# Altium footprint library Connector_FFC-FPC.PcbLib: 372 footprints (part 22 of 24)
Each footprint in its own frame and in the unit in brackets; x right, y up, seen from the top. Pads: shape width x height; smd on the part's side, far side on the other; paste and mask are expansions set on the pad; w line width, h text height; cw(c..) or ccw(c..) is an arc to the next point about the centre after c.
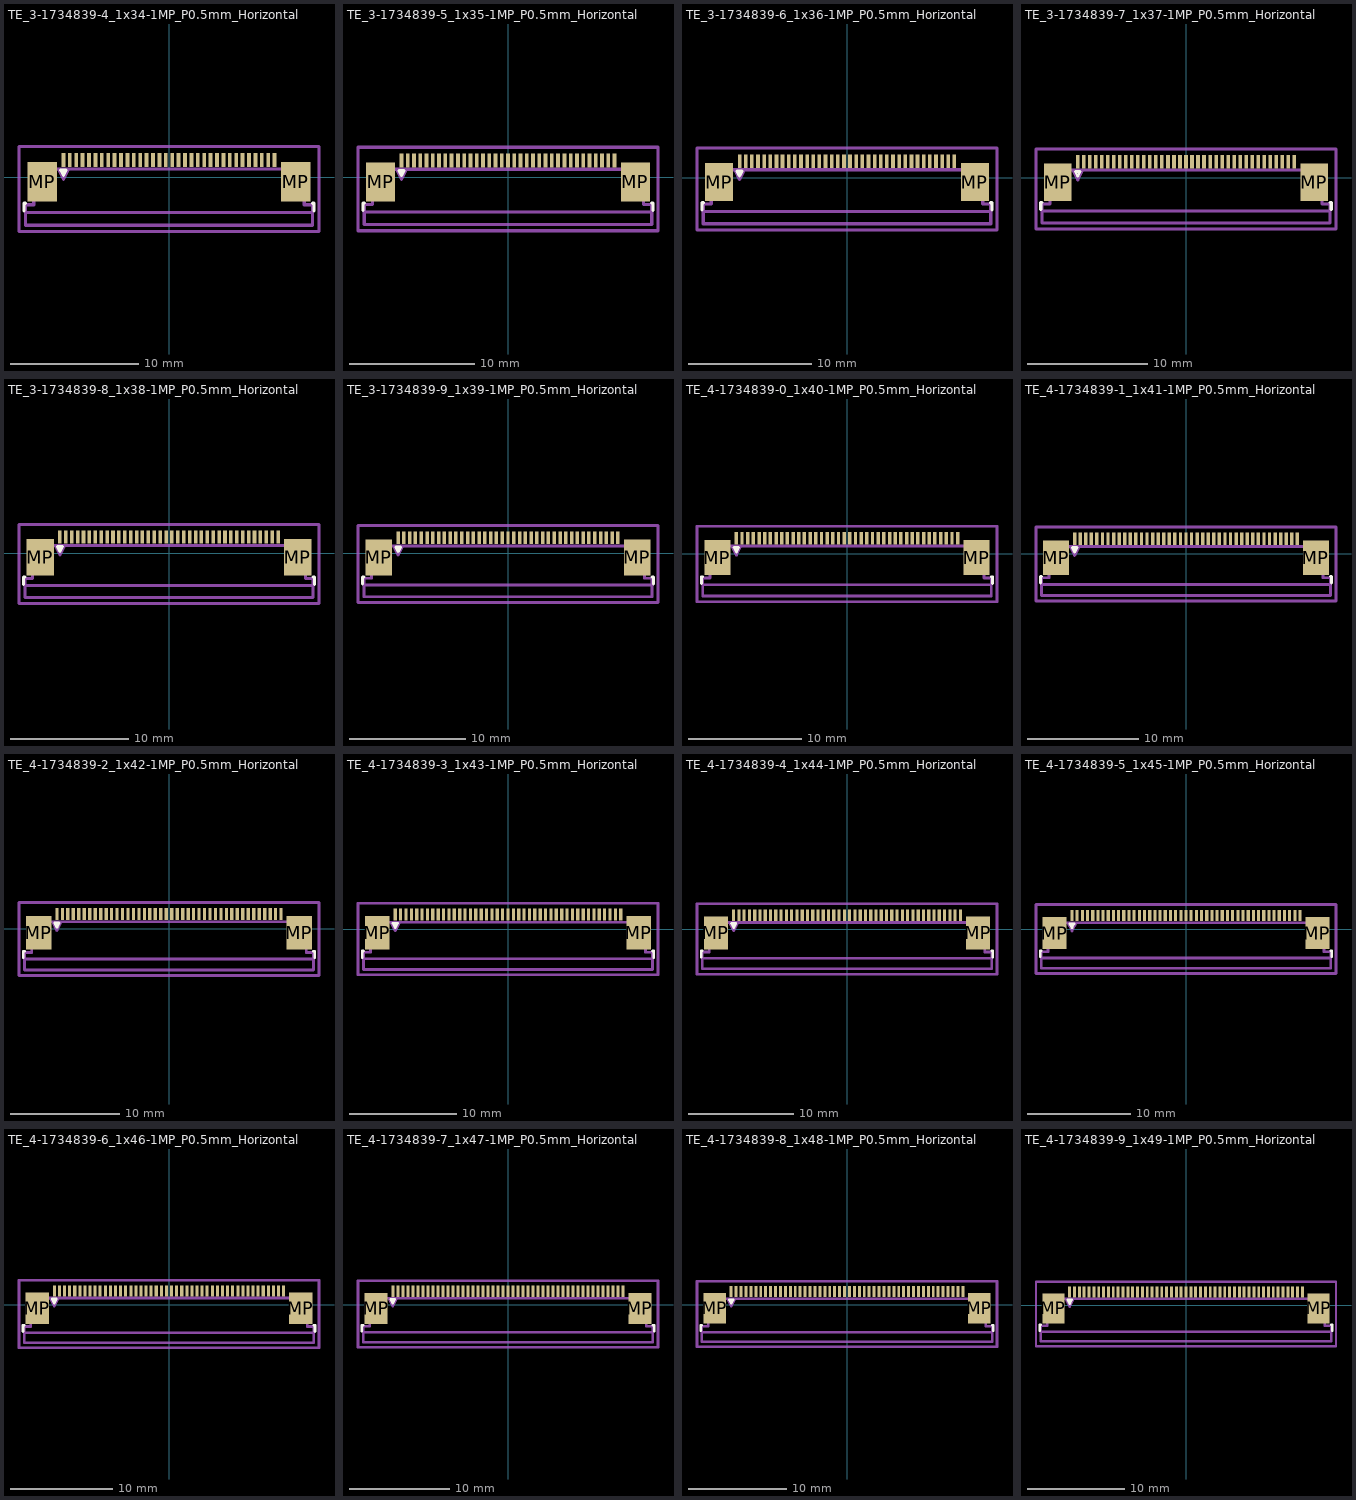
[diagram p21: the footprints below, top view; thin cyan lines are the x and y axes]

## TE_3-1734839-4_1x34-1MP_P0.5mm_Horizontal [mm]
pads (36):
  rect 0.3x1.1 smd: 1(-8.25,1.35) 2(-7.75,1.35) 3(-7.25,1.35) 4(-6.75,1.35) 5(-6.25,1.35) 6(-5.75,1.35) 7(-5.25,1.35) 8(-4.75,1.35) 9(-4.25,1.35) 10(-3.75,1.35) 11(-3.25,1.35) 12(-2.75,1.35) 13(-2.25,1.35) 14(-1.75,1.35) 15(-1.25,1.35) 16(-0.75,1.35) 17(-0.25,1.35) 18(0.25,1.35) 19(0.75,1.35) 20(1.25,1.35) 21(1.75,1.35) 22(2.25,1.35) 23(2.75,1.35) 24(3.25,1.35) 25(3.75,1.35) 26(4.25,1.35) 27(4.75,1.35) 28(5.25,1.35) 29(5.75,1.35) 30(6.25,1.35) 31(6.75,1.35) 32(7.25,1.35) 33(7.75,1.35) 34(8.25,1.35)
  rect 2.3x3.1 smd: MP(-9.92,-0.35) MP(9.92,-0.35)
F.SilkS:
  lines w0.254: -11.325,-2.64 -11.325,-2.04 -11.215,-2.04 ; 11.215,-2.04 11.325,-2.04 11.325,-2.64 ; -8.45,0.55 -8.05,0.55 -8.25,0.15 -8.45,0.55
Top Assembly:
  lines w0.254: -8.65,0.65 -8.25,-0.15 -7.85,0.65 ; -11.215,-3.75 11.215,-3.75 11.215,-2.15 10.56,-2.15 10.56,0.65 -10.56,0.65 -10.56,-2.15 -11.215,-2.15 -11.215,-3.75
  text "'.Designator'" at -4.047,-2.39 h1
Top Courtyard:
  lines w0.254: -11.72,-4.25 11.72,-4.25 11.72,2.41 -11.72,2.41 -11.72,-4.25
Top Designator:
  text ".Designator" at -7.618,-1.428 h1.52
Dwgs.User:
  lines w0.254: -11.105,-2.75 11.105,-2.75
  text "PCB Edge" at -1.728,-3.663 h0.5

## TE_3-1734839-5_1x35-1MP_P0.5mm_Horizontal [mm]
pads (37):
  rect 0.3x1.1 smd: 1(-8.5,1.35) 2(-8,1.35) 3(-7.5,1.35) 4(-7,1.35) 5(-6.5,1.35) 6(-6,1.35) 7(-5.5,1.35) 8(-5,1.35) 9(-4.5,1.35) 10(-4,1.35) 11(-3.5,1.35) 12(-3,1.35) 13(-2.5,1.35) 14(-2,1.35) 15(-1.5,1.35) 16(-1,1.35) 17(-0.5,1.35) 18(0,1.35) 19(0.5,1.35) 20(1,1.35) 21(1.5,1.35) 22(2,1.35) 23(2.5,1.35) 24(3,1.35) 25(3.5,1.35) 26(4,1.35) 27(4.5,1.35) 28(5,1.35) 29(5.5,1.35) 30(6,1.35) 31(6.5,1.35) 32(7,1.35) 33(7.5,1.35) 34(8,1.35) 35(8.5,1.35)
  rect 2.3x3.1 smd: MP(-10.17,-0.35) MP(10.17,-0.35)
F.SilkS:
  lines w0.254: -11.575,-2.64 -11.575,-2.04 -11.465,-2.04 ; 11.465,-2.04 11.575,-2.04 11.575,-2.64 ; -8.7,0.55 -8.3,0.55 -8.5,0.15 -8.7,0.55
Top Assembly:
  lines w0.254: -8.9,0.65 -8.5,-0.15 -8.1,0.65 ; -11.465,-3.75 11.465,-3.75 11.465,-2.15 10.81,-2.15 10.81,0.65 -10.81,0.65 -10.81,-2.15 -11.465,-2.15 -11.465,-3.75
  text "'.Designator'" at -4.047,-2.39 h1
Top Courtyard:
  lines w0.254: -11.97,-4.25 11.97,-4.25 11.97,2.41 -11.97,2.41 -11.97,-4.25
Top Designator:
  text ".Designator" at -7.618,-1.428 h1.52
Dwgs.User:
  lines w0.254: -11.355,-2.75 11.355,-2.75
  text "PCB Edge" at -1.728,-3.663 h0.5

## TE_3-1734839-6_1x36-1MP_P0.5mm_Horizontal [mm]
pads (38):
  rect 0.3x1.1 smd: 1(-8.75,1.35) 2(-8.25,1.35) 3(-7.75,1.35) 4(-7.25,1.35) 5(-6.75,1.35) 6(-6.25,1.35) 7(-5.75,1.35) 8(-5.25,1.35) 9(-4.75,1.35) 10(-4.25,1.35) 11(-3.75,1.35) 12(-3.25,1.35) 13(-2.75,1.35) 14(-2.25,1.35) 15(-1.75,1.35) 16(-1.25,1.35) 17(-0.75,1.35) 18(-0.25,1.35) 19(0.25,1.35) 20(0.75,1.35) 21(1.25,1.35) 22(1.75,1.35) 23(2.25,1.35) 24(2.75,1.35) 25(3.25,1.35) 26(3.75,1.35) 27(4.25,1.35) 28(4.75,1.35) 29(5.25,1.35) 30(5.75,1.35) 31(6.25,1.35) 32(6.75,1.35) 33(7.25,1.35) 34(7.75,1.35) 35(8.25,1.35) 36(8.75,1.35)
  rect 2.3x3.1 smd: MP(-10.42,-0.35) MP(10.42,-0.35)
F.SilkS:
  lines w0.254: -11.825,-2.64 -11.825,-2.04 -11.715,-2.04 ; 11.715,-2.04 11.825,-2.04 11.825,-2.64 ; -8.95,0.55 -8.55,0.55 -8.75,0.15 -8.95,0.55
Top Assembly:
  lines w0.254: -9.15,0.65 -8.75,-0.15 -8.35,0.65 ; -11.715,-3.75 11.715,-3.75 11.715,-2.15 11.06,-2.15 11.06,0.65 -11.06,0.65 -11.06,-2.15 -11.715,-2.15 -11.715,-3.75
  text "'.Designator'" at -4.047,-2.39 h1
Top Courtyard:
  lines w0.254: -12.22,-4.25 12.22,-4.25 12.22,2.41 -12.22,2.41 -12.22,-4.25
Top Designator:
  text ".Designator" at -7.618,-1.428 h1.52
Dwgs.User:
  lines w0.254: -11.605,-2.75 11.605,-2.75
  text "PCB Edge" at -1.728,-3.663 h0.5

## TE_3-1734839-7_1x37-1MP_P0.5mm_Horizontal [mm]
pads (39):
  rect 0.3x1.1 smd: 1(-9,1.35) 2(-8.5,1.35) 3(-8,1.35) 4(-7.5,1.35) 5(-7,1.35) 6(-6.5,1.35) 7(-6,1.35) 8(-5.5,1.35) 9(-5,1.35) 10(-4.5,1.35) 11(-4,1.35) 12(-3.5,1.35) 13(-3,1.35) 14(-2.5,1.35) 15(-2,1.35) 16(-1.5,1.35) 17(-1,1.35) 18(-0.5,1.35) 19(0,1.35) 20(0.5,1.35) 21(1,1.35) 22(1.5,1.35) 23(2,1.35) 24(2.5,1.35) 25(3,1.35) 26(3.5,1.35) 27(4,1.35) 28(4.5,1.35) 29(5,1.35) 30(5.5,1.35) 31(6,1.35) 32(6.5,1.35) 33(7,1.35) 34(7.5,1.35) 35(8,1.35) 36(8.5,1.35) 37(9,1.35)
  rect 2.3x3.1 smd: MP(-10.67,-0.35) MP(10.67,-0.35)
F.SilkS:
  lines w0.254: -12.075,-2.64 -12.075,-2.04 -11.965,-2.04 ; 11.965,-2.04 12.075,-2.04 12.075,-2.64 ; -9.2,0.55 -8.8,0.55 -9,0.15 -9.2,0.55
Top Assembly:
  lines w0.254: -9.4,0.65 -9,-0.15 -8.6,0.65 ; -11.965,-3.75 11.965,-3.75 11.965,-2.15 11.31,-2.15 11.31,0.65 -11.31,0.65 -11.31,-2.15 -11.965,-2.15 -11.965,-3.75
  text "'.Designator'" at -4.047,-2.39 h1
Top Courtyard:
  lines w0.254: -12.47,-4.25 12.47,-4.25 12.47,2.41 -12.47,2.41 -12.47,-4.25
Top Designator:
  text ".Designator" at -7.618,-1.428 h1.52
Dwgs.User:
  lines w0.254: -11.855,-2.75 11.855,-2.75
  text "PCB Edge" at -1.728,-3.663 h0.5

## TE_3-1734839-8_1x38-1MP_P0.5mm_Horizontal [mm]
pads (40):
  rect 0.3x1.1 smd: 1(-9.25,1.35) 2(-8.75,1.35) 3(-8.25,1.35) 4(-7.75,1.35) 5(-7.25,1.35) 6(-6.75,1.35) 7(-6.25,1.35) 8(-5.75,1.35) 9(-5.25,1.35) 10(-4.75,1.35) 11(-4.25,1.35) 12(-3.75,1.35) 13(-3.25,1.35) 14(-2.75,1.35) 15(-2.25,1.35) 16(-1.75,1.35) 17(-1.25,1.35) 18(-0.75,1.35) 19(-0.25,1.35) 20(0.25,1.35) 21(0.75,1.35) 22(1.25,1.35) 23(1.75,1.35) 24(2.25,1.35) 25(2.75,1.35) 26(3.25,1.35) 27(3.75,1.35) 28(4.25,1.35) 29(4.75,1.35) 30(5.25,1.35) 31(5.75,1.35) 32(6.25,1.35) 33(6.75,1.35) 34(7.25,1.35) 35(7.75,1.35) 36(8.25,1.35) 37(8.75,1.35) 38(9.25,1.35)
  rect 2.3x3.1 smd: MP(-10.92,-0.35) MP(10.92,-0.35)
F.SilkS:
  lines w0.254: -12.325,-2.64 -12.325,-2.04 -12.215,-2.04 ; 12.215,-2.04 12.325,-2.04 12.325,-2.64 ; -9.45,0.55 -9.05,0.55 -9.25,0.15 -9.45,0.55
Top Assembly:
  lines w0.254: -9.65,0.65 -9.25,-0.15 -8.85,0.65 ; -12.215,-3.75 12.215,-3.75 12.215,-2.15 11.56,-2.15 11.56,0.65 -11.56,0.65 -11.56,-2.15 -12.215,-2.15 -12.215,-3.75
  text "'.Designator'" at -4.047,-2.39 h1
Top Courtyard:
  lines w0.254: -12.72,-4.25 12.72,-4.25 12.72,2.41 -12.72,2.41 -12.72,-4.25
Top Designator:
  text ".Designator" at -7.618,-1.428 h1.52
Dwgs.User:
  lines w0.254: -12.105,-2.75 12.105,-2.75
  text "PCB Edge" at -1.728,-3.663 h0.5

## TE_3-1734839-9_1x39-1MP_P0.5mm_Horizontal [mm]
pads (41):
  rect 0.3x1.1 smd: 1(-9.5,1.35) 2(-9,1.35) 3(-8.5,1.35) 4(-8,1.35) 5(-7.5,1.35) 6(-7,1.35) 7(-6.5,1.35) 8(-6,1.35) 9(-5.5,1.35) 10(-5,1.35) 11(-4.5,1.35) 12(-4,1.35) 13(-3.5,1.35) 14(-3,1.35) 15(-2.5,1.35) 16(-2,1.35) 17(-1.5,1.35) 18(-1,1.35) 19(-0.5,1.35) 20(0,1.35) 21(0.5,1.35) 22(1,1.35) 23(1.5,1.35) 24(2,1.35) 25(2.5,1.35) 26(3,1.35) 27(3.5,1.35) 28(4,1.35) 29(4.5,1.35) 30(5,1.35) 31(5.5,1.35) 32(6,1.35) 33(6.5,1.35) 34(7,1.35) 35(7.5,1.35) 36(8,1.35) 37(8.5,1.35) 38(9,1.35) 39(9.5,1.35)
  rect 2.3x3.1 smd: MP(-11.17,-0.35) MP(11.17,-0.35)
F.SilkS:
  lines w0.254: -12.575,-2.64 -12.575,-2.04 -12.465,-2.04 ; 12.465,-2.04 12.575,-2.04 12.575,-2.64 ; -9.7,0.55 -9.3,0.55 -9.5,0.15 -9.7,0.55
Top Assembly:
  lines w0.254: -9.9,0.65 -9.5,-0.15 -9.1,0.65 ; -12.465,-3.75 12.465,-3.75 12.465,-2.15 11.81,-2.15 11.81,0.65 -11.81,0.65 -11.81,-2.15 -12.465,-2.15 -12.465,-3.75
  text "'.Designator'" at -4.047,-2.39 h1
Top Courtyard:
  lines w0.254: -12.97,-4.25 12.97,-4.25 12.97,2.41 -12.97,2.41 -12.97,-4.25
Top Designator:
  text ".Designator" at -7.618,-1.428 h1.52
Dwgs.User:
  lines w0.254: -12.355,-2.75 12.355,-2.75
  text "PCB Edge" at -1.728,-3.663 h0.5

## TE_4-1734839-0_1x40-1MP_P0.5mm_Horizontal [mm]
pads (42):
  rect 0.3x1.1 smd: 1(-9.75,1.35) 2(-9.25,1.35) 3(-8.75,1.35) 4(-8.25,1.35) 5(-7.75,1.35) 6(-7.25,1.35) 7(-6.75,1.35) 8(-6.25,1.35) 9(-5.75,1.35) 10(-5.25,1.35) 11(-4.75,1.35) 12(-4.25,1.35) 13(-3.75,1.35) 14(-3.25,1.35) 15(-2.75,1.35) 16(-2.25,1.35) 17(-1.75,1.35) 18(-1.25,1.35) 19(-0.75,1.35) 20(-0.25,1.35) 21(0.25,1.35) 22(0.75,1.35) 23(1.25,1.35) 24(1.75,1.35) 25(2.25,1.35) 26(2.75,1.35) 27(3.25,1.35) 28(3.75,1.35) 29(4.25,1.35) 30(4.75,1.35) 31(5.25,1.35) 32(5.75,1.35) 33(6.25,1.35) 34(6.75,1.35) 35(7.25,1.35) 36(7.75,1.35) 37(8.25,1.35) 38(8.75,1.35) 39(9.25,1.35) 40(9.75,1.35)
  rect 2.3x3.1 smd: MP(-11.42,-0.35) MP(11.42,-0.35)
F.SilkS:
  lines w0.254: -12.825,-2.64 -12.825,-2.04 -12.715,-2.04 ; 12.715,-2.04 12.825,-2.04 12.825,-2.64 ; -9.95,0.55 -9.55,0.55 -9.75,0.15 -9.95,0.55
Top Assembly:
  lines w0.254: -10.15,0.65 -9.75,-0.15 -9.35,0.65 ; -12.715,-3.75 12.715,-3.75 12.715,-2.15 12.06,-2.15 12.06,0.65 -12.06,0.65 -12.06,-2.15 -12.715,-2.15 -12.715,-3.75
  text "'.Designator'" at -4.047,-2.39 h1
Top Courtyard:
  lines w0.254: -13.22,-4.25 13.22,-4.25 13.22,2.41 -13.22,2.41 -13.22,-4.25
Top Designator:
  text ".Designator" at -7.618,-1.428 h1.52
Dwgs.User:
  lines w0.254: -12.605,-2.75 12.605,-2.75
  text "PCB Edge" at -1.728,-3.663 h0.5

## TE_4-1734839-1_1x41-1MP_P0.5mm_Horizontal [mm]
pads (43):
  rect 0.3x1.1 smd: 1(-10,1.35) 2(-9.5,1.35) 3(-9,1.35) 4(-8.5,1.35) 5(-8,1.35) 6(-7.5,1.35) 7(-7,1.35) 8(-6.5,1.35) 9(-6,1.35) 10(-5.5,1.35) 11(-5,1.35) 12(-4.5,1.35) 13(-4,1.35) 14(-3.5,1.35) 15(-3,1.35) 16(-2.5,1.35) 17(-2,1.35) 18(-1.5,1.35) 19(-1,1.35) 20(-0.5,1.35) 21(0,1.35) 22(0.5,1.35) 23(1,1.35) 24(1.5,1.35) 25(2,1.35) 26(2.5,1.35) 27(3,1.35) 28(3.5,1.35) 29(4,1.35) 30(4.5,1.35) 31(5,1.35) 32(5.5,1.35) 33(6,1.35) 34(6.5,1.35) 35(7,1.35) 36(7.5,1.35) 37(8,1.35) 38(8.5,1.35) 39(9,1.35) 40(9.5,1.35) 41(10,1.35)
  rect 2.3x3.1 smd: MP(-11.67,-0.35) MP(11.67,-0.35)
F.SilkS:
  lines w0.254: -13.075,-2.64 -13.075,-2.04 -12.965,-2.04 ; 12.965,-2.04 13.075,-2.04 13.075,-2.64 ; -10.2,0.55 -9.8,0.55 -10,0.15 -10.2,0.55
Top Assembly:
  lines w0.254: -10.4,0.65 -10,-0.15 -9.6,0.65 ; -12.965,-3.75 12.965,-3.75 12.965,-2.15 12.31,-2.15 12.31,0.65 -12.31,0.65 -12.31,-2.15 -12.965,-2.15 -12.965,-3.75
  text "'.Designator'" at -4.047,-2.39 h1
Top Courtyard:
  lines w0.254: -13.47,-4.25 13.47,-4.25 13.47,2.41 -13.47,2.41 -13.47,-4.25
Top Designator:
  text ".Designator" at -7.618,-1.428 h1.52
Dwgs.User:
  lines w0.254: -12.855,-2.75 12.855,-2.75
  text "PCB Edge" at -1.728,-3.663 h0.5

## TE_4-1734839-2_1x42-1MP_P0.5mm_Horizontal [mm]
pads (44):
  rect 0.3x1.1 smd: 1(-10.25,1.35) 2(-9.75,1.35) 3(-9.25,1.35) 4(-8.75,1.35) 5(-8.25,1.35) 6(-7.75,1.35) 7(-7.25,1.35) 8(-6.75,1.35) 9(-6.25,1.35) 10(-5.75,1.35) 11(-5.25,1.35) 12(-4.75,1.35) 13(-4.25,1.35) 14(-3.75,1.35) 15(-3.25,1.35) 16(-2.75,1.35) 17(-2.25,1.35) 18(-1.75,1.35) 19(-1.25,1.35) 20(-0.75,1.35) 21(-0.25,1.35) 22(0.25,1.35) 23(0.75,1.35) 24(1.25,1.35) 25(1.75,1.35) 26(2.25,1.35) 27(2.75,1.35) 28(3.25,1.35) 29(3.75,1.35) 30(4.25,1.35) 31(4.75,1.35) 32(5.25,1.35) 33(5.75,1.35) 34(6.25,1.35) 35(6.75,1.35) 36(7.25,1.35) 37(7.75,1.35) 38(8.25,1.35) 39(8.75,1.35) 40(9.25,1.35) 41(9.75,1.35) 42(10.25,1.35)
  rect 2.3x3.1 smd: MP(-11.92,-0.35) MP(11.92,-0.35)
F.SilkS:
  lines w0.254: -13.325,-2.64 -13.325,-2.04 -13.215,-2.04 ; 13.215,-2.04 13.325,-2.04 13.325,-2.64 ; -10.45,0.55 -10.05,0.55 -10.25,0.15 -10.45,0.55
Top Assembly:
  lines w0.254: -10.65,0.65 -10.25,-0.15 -9.85,0.65 ; -13.215,-3.75 13.215,-3.75 13.215,-2.15 12.56,-2.15 12.56,0.65 -12.56,0.65 -12.56,-2.15 -13.215,-2.15 -13.215,-3.75
  text "'.Designator'" at -4.047,-2.39 h1
Top Courtyard:
  lines w0.254: -13.72,-4.25 13.72,-4.25 13.72,2.41 -13.72,2.41 -13.72,-4.25
Top Designator:
  text ".Designator" at -7.618,-1.428 h1.52
Dwgs.User:
  lines w0.254: -13.105,-2.75 13.105,-2.75
  text "PCB Edge" at -1.728,-3.663 h0.5

## TE_4-1734839-3_1x43-1MP_P0.5mm_Horizontal [mm]
pads (45):
  rect 0.3x1.1 smd: 1(-10.5,1.35) 2(-10,1.35) 3(-9.5,1.35) 4(-9,1.35) 5(-8.5,1.35) 6(-8,1.35) 7(-7.5,1.35) 8(-7,1.35) 9(-6.5,1.35) 10(-6,1.35) 11(-5.5,1.35) 12(-5,1.35) 13(-4.5,1.35) 14(-4,1.35) 15(-3.5,1.35) 16(-3,1.35) 17(-2.5,1.35) 18(-2,1.35) 19(-1.5,1.35) 20(-1,1.35) 21(-0.5,1.35) 22(0,1.35) 23(0.5,1.35) 24(1,1.35) 25(1.5,1.35) 26(2,1.35) 27(2.5,1.35) 28(3,1.35) 29(3.5,1.35) 30(4,1.35) 31(4.5,1.35) 32(5,1.35) 33(5.5,1.35) 34(6,1.35) 35(6.5,1.35) 36(7,1.35) 37(7.5,1.35) 38(8,1.35) 39(8.5,1.35) 40(9,1.35) 41(9.5,1.35) 42(10,1.35) 43(10.5,1.35)
  rect 2.3x3.1 smd: MP(-12.17,-0.35) MP(12.17,-0.35)
F.SilkS:
  lines w0.254: -13.575,-2.64 -13.575,-2.04 -13.465,-2.04 ; 13.465,-2.04 13.575,-2.04 13.575,-2.64 ; -10.7,0.55 -10.3,0.55 -10.5,0.15 -10.7,0.55
Top Assembly:
  lines w0.254: -10.9,0.65 -10.5,-0.15 -10.1,0.65 ; -13.465,-3.75 13.465,-3.75 13.465,-2.15 12.81,-2.15 12.81,0.65 -12.81,0.65 -12.81,-2.15 -13.465,-2.15 -13.465,-3.75
  text "'.Designator'" at -4.047,-2.39 h1
Top Courtyard:
  lines w0.254: -13.97,-4.25 13.97,-4.25 13.97,2.41 -13.97,2.41 -13.97,-4.25
Top Designator:
  text ".Designator" at -7.618,-1.428 h1.52
Dwgs.User:
  lines w0.254: -13.355,-2.75 13.355,-2.75
  text "PCB Edge" at -1.728,-3.663 h0.5

## TE_4-1734839-4_1x44-1MP_P0.5mm_Horizontal [mm]
pads (46):
  rect 0.3x1.1 smd: 1(-10.75,1.35) 2(-10.25,1.35) 3(-9.75,1.35) 4(-9.25,1.35) 5(-8.75,1.35) 6(-8.25,1.35) 7(-7.75,1.35) 8(-7.25,1.35) 9(-6.75,1.35) 10(-6.25,1.35) 11(-5.75,1.35) 12(-5.25,1.35) 13(-4.75,1.35) 14(-4.25,1.35) 15(-3.75,1.35) 16(-3.25,1.35) 17(-2.75,1.35) 18(-2.25,1.35) 19(-1.75,1.35) 20(-1.25,1.35) 21(-0.75,1.35) 22(-0.25,1.35) 23(0.25,1.35) 24(0.75,1.35) 25(1.25,1.35) 26(1.75,1.35) 27(2.25,1.35) 28(2.75,1.35) 29(3.25,1.35) 30(3.75,1.35) 31(4.25,1.35) 32(4.75,1.35) 33(5.25,1.35) 34(5.75,1.35) 35(6.25,1.35) 36(6.75,1.35) 37(7.25,1.35) 38(7.75,1.35) 39(8.25,1.35) 40(8.75,1.35) 41(9.25,1.35) 42(9.75,1.35) 43(10.25,1.35) 44(10.75,1.35)
  rect 2.3x3.1 smd: MP(-12.42,-0.35) MP(12.42,-0.35)
F.SilkS:
  lines w0.254: -13.825,-2.64 -13.825,-2.04 -13.715,-2.04 ; 13.715,-2.04 13.825,-2.04 13.825,-2.64 ; -10.95,0.55 -10.55,0.55 -10.75,0.15 -10.95,0.55
Top Assembly:
  lines w0.254: -11.15,0.65 -10.75,-0.15 -10.35,0.65 ; -13.715,-3.75 13.715,-3.75 13.715,-2.15 13.06,-2.15 13.06,0.65 -13.06,0.65 -13.06,-2.15 -13.715,-2.15 -13.715,-3.75
  text "'.Designator'" at -4.047,-2.39 h1
Top Courtyard:
  lines w0.254: -14.22,-4.25 14.22,-4.25 14.22,2.41 -14.22,2.41 -14.22,-4.25
Top Designator:
  text ".Designator" at -7.618,-1.428 h1.52
Dwgs.User:
  lines w0.254: -13.605,-2.75 13.605,-2.75
  text "PCB Edge" at -1.728,-3.663 h0.5

## TE_4-1734839-5_1x45-1MP_P0.5mm_Horizontal [mm]
pads (47):
  rect 0.3x1.1 smd: 1(-11,1.35) 2(-10.5,1.35) 3(-10,1.35) 4(-9.5,1.35) 5(-9,1.35) 6(-8.5,1.35) 7(-8,1.35) 8(-7.5,1.35) 9(-7,1.35) 10(-6.5,1.35) 11(-6,1.35) 12(-5.5,1.35) 13(-5,1.35) 14(-4.5,1.35) 15(-4,1.35) 16(-3.5,1.35) 17(-3,1.35) 18(-2.5,1.35) 19(-2,1.35) 20(-1.5,1.35) 21(-1,1.35) 22(-0.5,1.35) 23(0,1.35) 24(0.5,1.35) 25(1,1.35) 26(1.5,1.35) 27(2,1.35) 28(2.5,1.35) 29(3,1.35) 30(3.5,1.35) 31(4,1.35) 32(4.5,1.35) 33(5,1.35) 34(5.5,1.35) 35(6,1.35) 36(6.5,1.35) 37(7,1.35) 38(7.5,1.35) 39(8,1.35) 40(8.5,1.35) 41(9,1.35) 42(9.5,1.35) 43(10,1.35) 44(10.5,1.35) 45(11,1.35)
  rect 2.3x3.1 smd: MP(-12.67,-0.35) MP(12.67,-0.35)
F.SilkS:
  lines w0.254: -14.075,-2.64 -14.075,-2.04 -13.965,-2.04 ; 13.965,-2.04 14.075,-2.04 14.075,-2.64 ; -11.2,0.55 -10.8,0.55 -11,0.15 -11.2,0.55
Top Assembly:
  lines w0.254: -11.4,0.65 -11,-0.15 -10.6,0.65 ; -13.965,-3.75 13.965,-3.75 13.965,-2.15 13.31,-2.15 13.31,0.65 -13.31,0.65 -13.31,-2.15 -13.965,-2.15 -13.965,-3.75
  text "'.Designator'" at -4.047,-2.39 h1
Top Courtyard:
  lines w0.254: -14.47,-4.25 14.47,-4.25 14.47,2.41 -14.47,2.41 -14.47,-4.25
Top Designator:
  text ".Designator" at -7.618,-1.428 h1.52
Dwgs.User:
  lines w0.254: -13.855,-2.75 13.855,-2.75
  text "PCB Edge" at -1.728,-3.663 h0.5

## TE_4-1734839-6_1x46-1MP_P0.5mm_Horizontal [mm]
pads (48):
  rect 0.3x1.1 smd: 1(-11.25,1.35) 2(-10.75,1.35) 3(-10.25,1.35) 4(-9.75,1.35) 5(-9.25,1.35) 6(-8.75,1.35) 7(-8.25,1.35) 8(-7.75,1.35) 9(-7.25,1.35) 10(-6.75,1.35) 11(-6.25,1.35) 12(-5.75,1.35) 13(-5.25,1.35) 14(-4.75,1.35) 15(-4.25,1.35) 16(-3.75,1.35) 17(-3.25,1.35) 18(-2.75,1.35) 19(-2.25,1.35) 20(-1.75,1.35) 21(-1.25,1.35) 22(-0.75,1.35) 23(-0.25,1.35) 24(0.25,1.35) 25(0.75,1.35) 26(1.25,1.35) 27(1.75,1.35) 28(2.25,1.35) 29(2.75,1.35) 30(3.25,1.35) 31(3.75,1.35) 32(4.25,1.35) 33(4.75,1.35) 34(5.25,1.35) 35(5.75,1.35) 36(6.25,1.35) 37(6.75,1.35) 38(7.25,1.35) 39(7.75,1.35) 40(8.25,1.35) 41(8.75,1.35) 42(9.25,1.35) 43(9.75,1.35) 44(10.25,1.35) 45(10.75,1.35) 46(11.25,1.35)
  rect 2.3x3.1 smd: MP(-12.92,-0.35) MP(12.92,-0.35)
F.SilkS:
  lines w0.254: -14.325,-2.64 -14.325,-2.04 -14.215,-2.04 ; 14.215,-2.04 14.325,-2.04 14.325,-2.64 ; -11.45,0.55 -11.05,0.55 -11.25,0.15 -11.45,0.55
Top Assembly:
  lines w0.254: -11.65,0.65 -11.25,-0.15 -10.85,0.65 ; -14.215,-3.75 14.215,-3.75 14.215,-2.15 13.56,-2.15 13.56,0.65 -13.56,0.65 -13.56,-2.15 -14.215,-2.15 -14.215,-3.75
  text "'.Designator'" at -4.047,-2.39 h1
Top Courtyard:
  lines w0.254: -14.72,-4.25 14.72,-4.25 14.72,2.41 -14.72,2.41 -14.72,-4.25
Top Designator:
  text ".Designator" at -7.618,-1.428 h1.52
Dwgs.User:
  lines w0.254: -14.105,-2.75 14.105,-2.75
  text "PCB Edge" at -1.728,-3.663 h0.5

## TE_4-1734839-7_1x47-1MP_P0.5mm_Horizontal [mm]
pads (49):
  rect 0.3x1.1 smd: 1(-11.5,1.35) 2(-11,1.35) 3(-10.5,1.35) 4(-10,1.35) 5(-9.5,1.35) 6(-9,1.35) 7(-8.5,1.35) 8(-8,1.35) 9(-7.5,1.35) 10(-7,1.35) 11(-6.5,1.35) 12(-6,1.35) 13(-5.5,1.35) 14(-5,1.35) 15(-4.5,1.35) 16(-4,1.35) 17(-3.5,1.35) 18(-3,1.35) 19(-2.5,1.35) 20(-2,1.35) 21(-1.5,1.35) 22(-1,1.35) 23(-0.5,1.35) 24(0,1.35) 25(0.5,1.35) 26(1,1.35) 27(1.5,1.35) 28(2,1.35) 29(2.5,1.35) 30(3,1.35) 31(3.5,1.35) 32(4,1.35) 33(4.5,1.35) 34(5,1.35) 35(5.5,1.35) 36(6,1.35) 37(6.5,1.35) 38(7,1.35) 39(7.5,1.35) 40(8,1.35) 41(8.5,1.35) 42(9,1.35) 43(9.5,1.35) 44(10,1.35) 45(10.5,1.35) 46(11,1.35) 47(11.5,1.35)
  rect 2.3x3.1 smd: MP(-13.17,-0.35) MP(13.17,-0.35)
F.SilkS:
  lines w0.254: -14.575,-2.64 -14.575,-2.04 -14.465,-2.04 ; 14.465,-2.04 14.575,-2.04 14.575,-2.64 ; -11.7,0.55 -11.3,0.55 -11.5,0.15 -11.7,0.55
Top Assembly:
  lines w0.254: -11.9,0.65 -11.5,-0.15 -11.1,0.65 ; -14.465,-3.75 14.465,-3.75 14.465,-2.15 13.81,-2.15 13.81,0.65 -13.81,0.65 -13.81,-2.15 -14.465,-2.15 -14.465,-3.75
  text "'.Designator'" at -4.047,-2.39 h1
Top Courtyard:
  lines w0.254: -14.97,-4.25 14.97,-4.25 14.97,2.41 -14.97,2.41 -14.97,-4.25
Top Designator:
  text ".Designator" at -7.618,-1.428 h1.52
Dwgs.User:
  lines w0.254: -14.355,-2.75 14.355,-2.75
  text "PCB Edge" at -1.728,-3.663 h0.5

## TE_4-1734839-8_1x48-1MP_P0.5mm_Horizontal [mm]
pads (50):
  rect 0.3x1.1 smd: 1(-11.75,1.35) 2(-11.25,1.35) 3(-10.75,1.35) 4(-10.25,1.35) 5(-9.75,1.35) 6(-9.25,1.35) 7(-8.75,1.35) 8(-8.25,1.35) 9(-7.75,1.35) 10(-7.25,1.35) 11(-6.75,1.35) 12(-6.25,1.35) 13(-5.75,1.35) 14(-5.25,1.35) 15(-4.75,1.35) 16(-4.25,1.35) 17(-3.75,1.35) 18(-3.25,1.35) 19(-2.75,1.35) 20(-2.25,1.35) 21(-1.75,1.35) 22(-1.25,1.35) 23(-0.75,1.35) 24(-0.25,1.35) 25(0.25,1.35) 26(0.75,1.35) 27(1.25,1.35) 28(1.75,1.35) 29(2.25,1.35) 30(2.75,1.35) 31(3.25,1.35) 32(3.75,1.35) 33(4.25,1.35) 34(4.75,1.35) 35(5.25,1.35) 36(5.75,1.35) 37(6.25,1.35) 38(6.75,1.35) 39(7.25,1.35) 40(7.75,1.35) 41(8.25,1.35) 42(8.75,1.35) 43(9.25,1.35) 44(9.75,1.35) 45(10.25,1.35) 46(10.75,1.35) 47(11.25,1.35) 48(11.75,1.35)
  rect 2.3x3.1 smd: MP(-13.42,-0.35) MP(13.42,-0.35)
F.SilkS:
  lines w0.254: -14.825,-2.64 -14.825,-2.04 -14.715,-2.04 ; 14.715,-2.04 14.825,-2.04 14.825,-2.64 ; -11.95,0.55 -11.55,0.55 -11.75,0.15 -11.95,0.55
Top Assembly:
  lines w0.254: -12.15,0.65 -11.75,-0.15 -11.35,0.65 ; -14.715,-3.75 14.715,-3.75 14.715,-2.15 14.06,-2.15 14.06,0.65 -14.06,0.65 -14.06,-2.15 -14.715,-2.15 -14.715,-3.75
  text "'.Designator'" at -4.047,-2.39 h1
Top Courtyard:
  lines w0.254: -15.22,-4.25 15.22,-4.25 15.22,2.41 -15.22,2.41 -15.22,-4.25
Top Designator:
  text ".Designator" at -7.618,-1.428 h1.52
Dwgs.User:
  lines w0.254: -14.605,-2.75 14.605,-2.75
  text "PCB Edge" at -1.728,-3.663 h0.5

## TE_4-1734839-9_1x49-1MP_P0.5mm_Horizontal [mm]
pads (51):
  rect 0.3x1.1 smd: 1(-12,1.35) 2(-11.5,1.35) 3(-11,1.35) 4(-10.5,1.35) 5(-10,1.35) 6(-9.5,1.35) 7(-9,1.35) 8(-8.5,1.35) 9(-8,1.35) 10(-7.5,1.35) 11(-7,1.35) 12(-6.5,1.35) 13(-6,1.35) 14(-5.5,1.35) 15(-5,1.35) 16(-4.5,1.35) 17(-4,1.35) 18(-3.5,1.35) 19(-3,1.35) 20(-2.5,1.35) 21(-2,1.35) 22(-1.5,1.35) 23(-1,1.35) 24(-0.5,1.35) 25(0,1.35) 26(0.5,1.35) 27(1,1.35) 28(1.5,1.35) 29(2,1.35) 30(2.5,1.35) 31(3,1.35) 32(3.5,1.35) 33(4,1.35) 34(4.5,1.35) 35(5,1.35) 36(5.5,1.35) 37(6,1.35) 38(6.5,1.35) 39(7,1.35) 40(7.5,1.35) 41(8,1.35) 42(8.5,1.35) 43(9,1.35) 44(9.5,1.35) 45(10,1.35) 46(10.5,1.35) 47(11,1.35) 48(11.5,1.35) 49(12,1.35)
  rect 2.3x3.1 smd: MP(-13.67,-0.35) MP(13.67,-0.35)
F.SilkS:
  lines w0.254: -15.075,-2.64 -15.075,-2.04 -14.965,-2.04 ; 14.965,-2.04 15.075,-2.04 15.075,-2.64 ; -12.2,0.55 -11.8,0.55 -12,0.15 -12.2,0.55
Top Assembly:
  lines w0.254: -12.4,0.65 -12,-0.15 -11.6,0.65 ; -14.965,-3.75 14.965,-3.75 14.965,-2.15 14.31,-2.15 14.31,0.65 -14.31,0.65 -14.31,-2.15 -14.965,-2.15 -14.965,-3.75
  text "'.Designator'" at -4.047,-2.39 h1
Top Courtyard:
  lines w0.254: -15.47,-4.25 15.47,-4.25 15.47,2.41 -15.47,2.41 -15.47,-4.25
Top Designator:
  text ".Designator" at -7.618,-1.428 h1.52
Dwgs.User:
  lines w0.254: -14.855,-2.75 14.855,-2.75
  text "PCB Edge" at -1.728,-3.663 h0.5